# Altium schematic symbol library 2896144.SchLib: 1 symbol
Pins are listed as number, name and electrical type; pins without a type are passive.

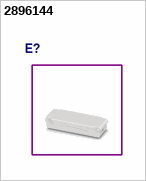
[diagram p0: symbol 2896144]

## 2896144
designator E?  (value not drawn)